# Altium schematic symbol library tpd2s017dbvr.SchLib: 1 symbol
Pins are listed as number, name and electrical type; pins without a type are passive.

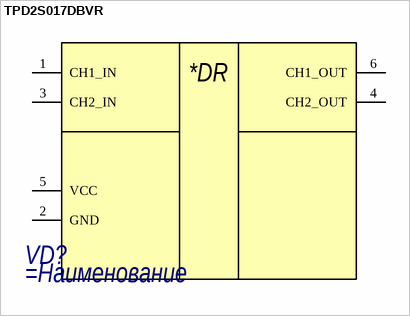
[diagram p0: symbol TPD2S017DBVR]

## TPD2S017DBVR
designator VD?
=Описание
pins: 1 CH1_IN, 2 GND, 3 CH2_IN, 4 CH2_OUT, 5 VCC, 6 CH1_OUT
text: *DR